# Altium footprint library C0402.PcbLib: 1 footprints
Each footprint in its own frame and in the unit in brackets; x right, y up, seen from the top. Pads: shape width x height; smd on the part's side, far side on the other; paste and mask are expansions set on the pad; w line width, h text height; cw(c..) or ccw(c..) is an arc to the next point about the centre after c.
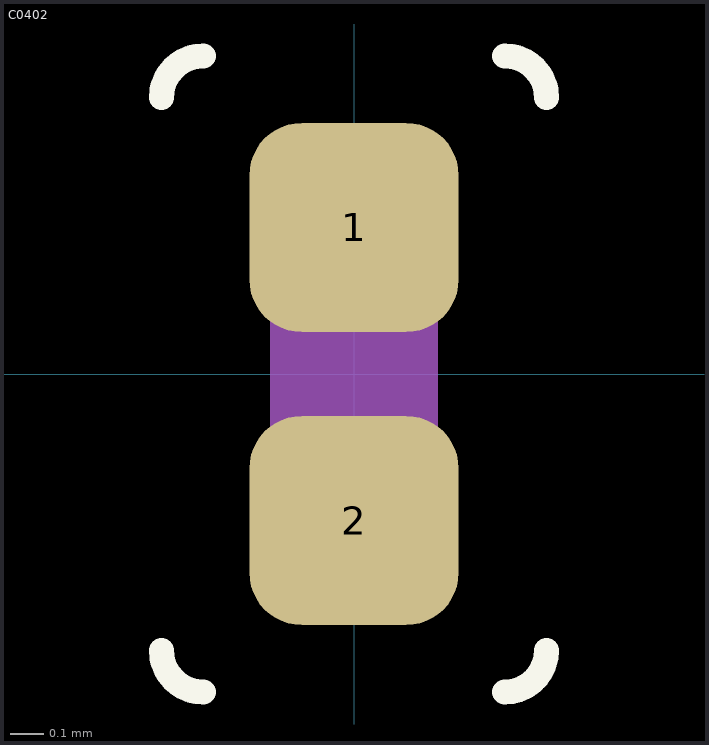
[diagram p0: the footprint, top view; thin cyan lines are the x and y axes]

## C0402 [mil]
pads (2):
  rrect50% 25x25 smd: 1(0,17.5) 2(0,-17.5)
Top Overlay:
  lines w3: -23,-33 ccw(c-18,-33) -18,-38 ; -23,33 cw(c-18,33) -18,38 ; 18,-38 ccw(c18,-33) 23,-33 ; 18,38 cw(c18,33) 23,33
Assembly Top:
  region: 10,-20 -10,-20 -10,20 10,20
3D body "step_temp.STEP": height 21.65, standoff 0, extent -9.69,-19.68 10,19.68